# Altium schematic symbol library 3-1825910-5.SchLib: 1 symbol
Pins are listed as number, name and electrical type; pins without a type are passive.

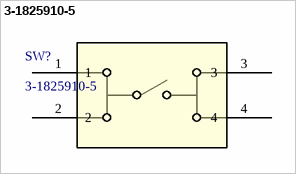
[diagram p0: symbol 3-1825910-5]

## 3-1825910-5
designator SW?
FSM18JH=6MM TACT SWITCH, HIGH TEMP; Manufacturer_Name: TE Connectivity; Copyright: Copyright (C) 2025 Ultra Librarian. All rights reserved.; Manufacturer_Part_Number: 3-1825910-5; RefDes: RefDes; Type: Type
footprint SW4_1825910-I_TEC
pins: 1, 2, 3, 4